# Altium schematic symbol library SCH - POWER - LINEAR VREG - TI TPS73230-EP_DBV_5.SchLib: 1 symbol
Pins are listed as number, name and electrical type; pins without a type are passive.

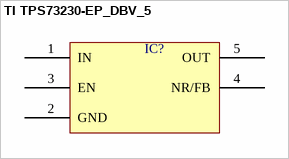
[diagram p0: symbol TI TPS73230-EP_DBV_5]

## TI TPS73230-EP_DBV_5
designator IC?  (value not drawn)
pins: 1 IN, 2 GND, 3 EN, 4 NR/FB, 5 OUT